# EAGLE library part 204-213 (library switch-dil)
DPST DIP SWITCH
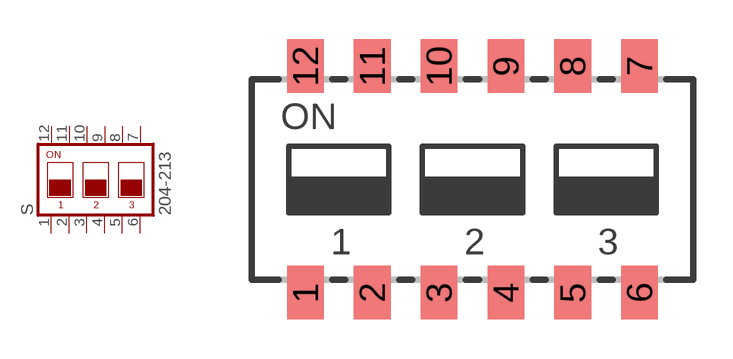
[diagram p75: symbol with the pads of 204-213; footprint 204-213]

Designator prefix S

## 204-213  [204-213]
1  1  pas
2  2  pas
3  3  pas
4  4  pas
5  5  pas
6  6  pas
7  7  pas
8  8  pas
9  9  pas
10  10  pas
11  11  pas
12  12  pas

## Footprint 204-213 (pad centres in mm)
DPST DIP SWITCH CTS Electrocomponents
smd 1.397 x 2.032: 1 -6.35,-4.305; 2 -3.81,-4.305; 3 -1.27,-4.305; 4 1.27,-4.305; 5 3.81,-4.305; 6 6.35,-4.305; 7 6.35,4.305; 8 3.81,4.305; 9 1.27,4.305; 10 -1.27,4.305; 11 -3.81,4.305; 12 -6.35,4.305